# Altium schematic symbol library Diode.SchLib: 6 symbols
Pins are listed as number, name and electrical type; pins without a type are passive.

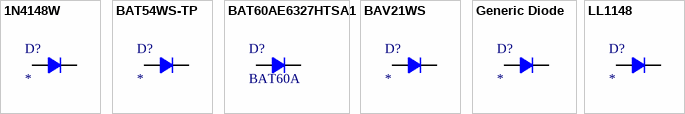
[diagram p0: symbols 1N4148W to LL1148]

## 1N4148W
designator D?
DIODE GEN PURP 100V 300MA SOD123; Similar Part: BAV16W; Manufacturer: Diodes Incorporated; Manufacturer Product Number: 1N4148W-7-F; Supplier Part No: 1N4148W-FDICT-ND; Supplier URL: https://www.digikey.com/en/products/detail/diodes-incorporated/1N4148W-7-F/814371; Mounting Technology: SMT; Package: SOD-123
footprint D_SOD-123 (SOD-123 Diode [Vishay])
pins: A, C
1 alternate drawing of the same symbol

## BAT54WS-TP
designator D?
DIODE SCHOTTKY 30V 200MA SOD323; Manufacturer: Micro Commercial Co; Manufacturer Product Number: BAT54WS-TP; Similar Part: *; Supplier Part No: BAT54WS-TP; Supplier URL: https://www.chipdip.by/product/bat54ws-tp-reel-3000; Mounting Technology: SMT; Package: SOD-323; Supplier: ChipDip
footprint D_SOD-323 (Diode SOD-323)
pins: A, C
1 alternate drawing of the same symbol

## BAT60AE6327HTSA1
designator D?, comment BAT60A
DIODE SCHOTTKY 10V 3A SOD323-2; Manufacturer: Infineon; Manufacturer Product Number: BAT60AE6327HTSA1; Similar Part: *; Supplier Part No: 314611781; Supplier URL: https://www.chipdip.by/product/bat60a; Mounting Technology: SMT; Package: SOD-323; Supplier: ChipDip
footprint D_SOD-323 (Diode SOD-323)
pins: A, C
1 alternate drawing of the same symbol

## BAV21WS
designator D?
DIODE GEN PURP 200V 200MA SOD323; Manufacturer: Diotec; Manufacturer Product Number: BAV21WS-7-F; Similar Part: *; Supplier Part No: 9000771572; Supplier URL: https://www.chipdip.by/product/bav21ws-diotec; Mounting Technology: SMT; Package: SOD-323; Supplier: ChipDip
footprint D_SOD-323 (Diode SOD-323)
pins: A, C
1 alternate drawing of the same symbol

## Generic Diode
designator D?
pins: A, C
1 alternate drawing of the same symbol

## LL1148
designator D?
DIODE GEN PURP 100V 200MA SOD80; Mounting Technology: SMT; Package: DO-213AC, MINI-MELF, SOD-80
footprint D_SOD-80 (MiniMELF (SOD-80) Diode)
pins: A, C
1 alternate drawing of the same symbol